# Altium schematic symbol library SnapEDAsch.SchLib: 1 symbol
Pins are listed as number, name and electrical type; pins without a type are passive.

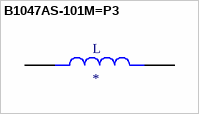
[diagram p0: symbol B1047AS-101M=P3]

## B1047AS-101M=P3
designator L
Inductor with Inductance: 100uH Tol. +/-20%, Package: 2929 _7373_; MF: Murata; MP: B1047AS-101M=P3; Package: NONSTANDARD; Value: *; Availability: Unavailable; SnapEDA_Link: https://www.snapeda.com/parts/B1047AS-101M=P3/Murata/view-part/1502777/?ref=snap; Price: None
footprint IND_B1047AS-101M=P3
pins: 1, 2